# EAGLE library part STM32F327CCT (library stm32f327)
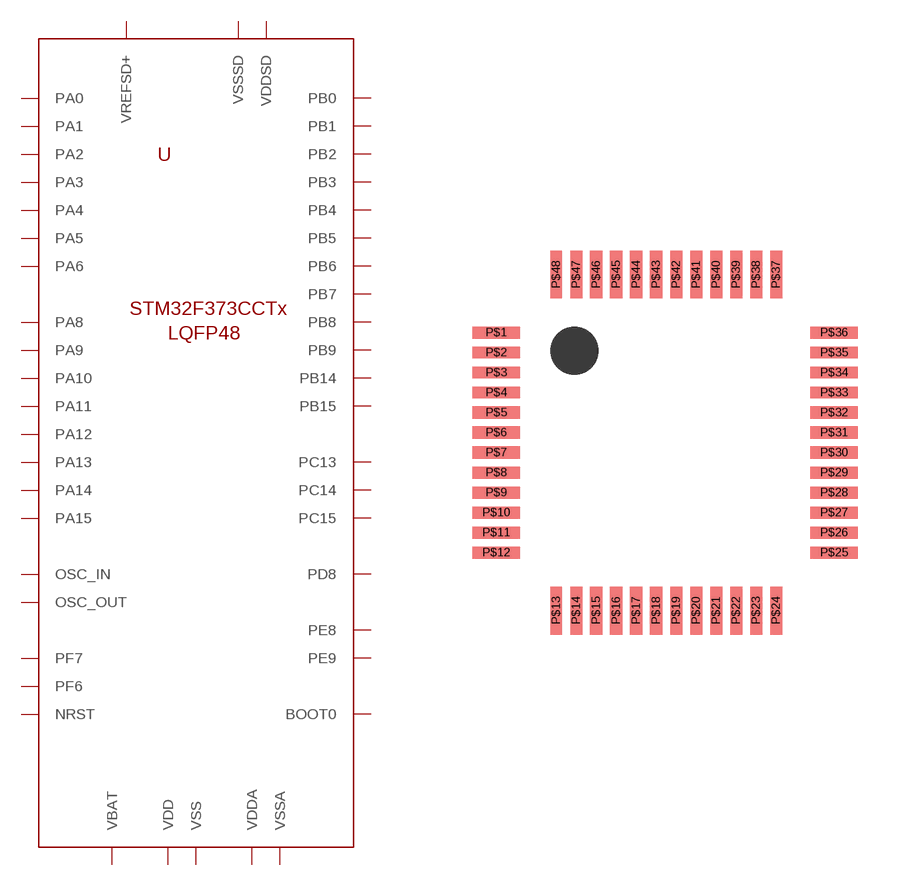
[diagram p0: symbol with the pads of LQFP48; footprint LQFP48]

Designator prefix U

## STM32F327CCT6  [LQFP48]
P$1  VBAT
P$2  PC13
P$3  PC14
P$4  PC15
P$5  OSC_IN
P$6  OSC_OUT
P$7  NRST  pwr
P$8  VSSA  pwr
P$9  VDDA  pwr
P$10  PA0
P$11  PA1
P$12  PA2
P$13  PA3
P$14  PA4
P$15  PA5
P$16  PA6
P$17  VDD
P$18  PB0
P$19  PB1
P$20  PB2
P$21  PE8
P$22  PE9
P$23  VSSSD  pwr
P$24  VDDSD  pwr
P$25  VREFSD+  pwr
P$26  PB14
P$27  PB15
P$28  PD8
P$29  PA8
P$30  PA9
P$31  PA10
P$32  PA11
P$33  PA12
P$34  PA13
P$35  PF6
P$36  PF7
P$37  PA14
P$38  PA15
P$39  PB3
P$40  PB4
P$41  PB5
P$42  PB6
P$43  PB7
P$44  BOOT0
P$45  PB8
P$46  PB9
P$47  VSS
P$48  VDD

## Footprint LQFP48 (pad centres in mm)
smd 1.2 x 0.3: P$1 -4.25,2.75; P$2 -4.25,2.25; P$3 -4.25,1.75; P$4 -4.25,1.25; P$5 -4.25,0.75; P$6 -4.25,0.25; P$7 -4.25,-0.25; P$8 -4.25,-0.75; P$9 -4.25,-1.25; P$10 -4.25,-1.75; P$11 -4.25,-2.25; P$12 -4.25,-2.75; P$25 4.2,-2.75; P$26 4.2,-2.25; P$27 4.2,-1.75; P$28 4.2,-1.25; P$29 4.2,-0.75; P$30 4.2,-0.25; P$31 4.2,0.25; P$32 4.2,0.75; P$33 4.2,1.25; P$34 4.2,1.75; P$35 4.2,2.25; P$36 4.2,2.75
smd 0.3 x 1.2: P$13 -2.75,-4.2; P$14 -2.25,-4.2; P$15 -1.75,-4.2; P$16 -1.25,-4.2; P$17 -0.75,-4.2; P$18 -0.25,-4.2; P$19 0.25,-4.2; P$20 0.75,-4.2; P$21 1.25,-4.2; P$22 1.75,-4.2; P$23 2.25,-4.2; P$24 2.75,-4.2; P$37 2.75,4.2; P$38 2.25,4.2; P$39 1.75,4.2; P$40 1.25,4.2; P$41 0.75,4.2; P$42 0.25,4.2; P$43 -0.25,4.2; P$44 -0.75,4.2; P$45 -1.25,4.2; P$46 -1.75,4.2; P$47 -2.25,4.2; P$48 -2.75,4.2